# EAGLE library part LTC4151*? (library Analog Devices)
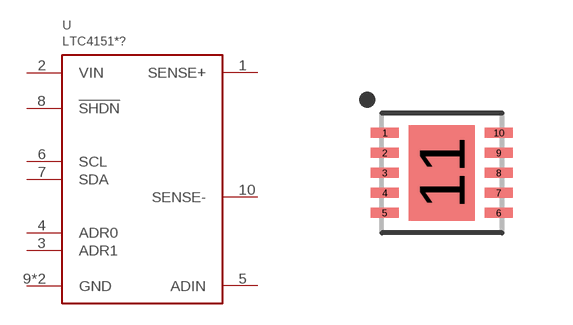
[diagram p39: symbol with the pads of DFN10; footprint DFN10]

Designator prefix U

## LTC4151CDD, LTC4151HDD, LTC4151IDD  [DFN10]
1  SENSE+
2  VIN
3  ADR1
4  ADR0
5  ADIN
6  SCL
7  SDA
8  !SHDN
9  GND
10  SENSE-
11  GND

## Footprint DFN10 (pad centres in mm)
smd 0.7 x 0.25: 1 -1.425,1; 2 -1.425,0.5; 3 -1.425,0; 4 -1.425,-0.5; 5 -1.425,-1; 6 1.425,-1; 7 1.425,-0.5; 8 1.425,0; 9 1.425,0.5; 10 1.425,1
smd 1.65 x 2.38: 11 0,0